# EAGLE library part CAT24C32WI-GT3 (library HEXABITZ_ICs)
32-Kb I2C CMOS Serial EEPROM
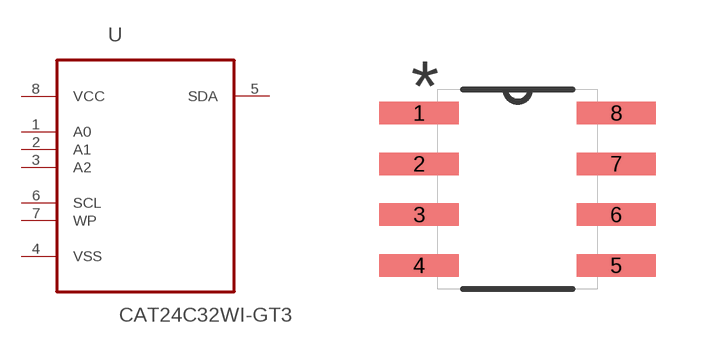
[diagram p17: symbol with the pads of SOIC127P600X175-8N; footprint SOIC127P600X175-8N]

Designator prefix U

## CAT24C32WI-GT3 (AVAILABILITY: Unavailable; MFN: ON; MPN: CAT24C32WI-GT3; OCTOPART_URL: https://octopart.com/cat24c32wi-gt3-on+semiconductor-46637079?r=sp&s=FKlwZf5pQnKrnKEoFDDqWA; PACKAGE: SOIC-8 ON; PRICE: None)  [SOIC127P600X175-8N]
1  A0  in
2  A1  in
3  A2  in
4  VSS  pas
5  SDA
6  SCL  in
7  WP  in
8  VCC  pwr

## Footprint SOIC127P600X175-8N (pad centres in mm)
smd 1.981 x 0.559: 1 -2.464,1.905; 2 -2.464,0.635; 3 -2.464,-0.635; 4 -2.464,-1.905; 5 2.464,-1.905; 6 2.464,-0.635; 7 2.464,0.635; 8 2.464,1.905